# Altium footprint library EEG.PcbLib: 8 footprints
Each footprint in its own frame and in the unit in brackets; x right, y up, seen from the top. Pads: shape width x height; smd on the part's side, far side on the other; paste and mask are expansions set on the pad; w line width, h text height; cw(c..) or ccw(c..) is an arc to the next point about the centre after c.
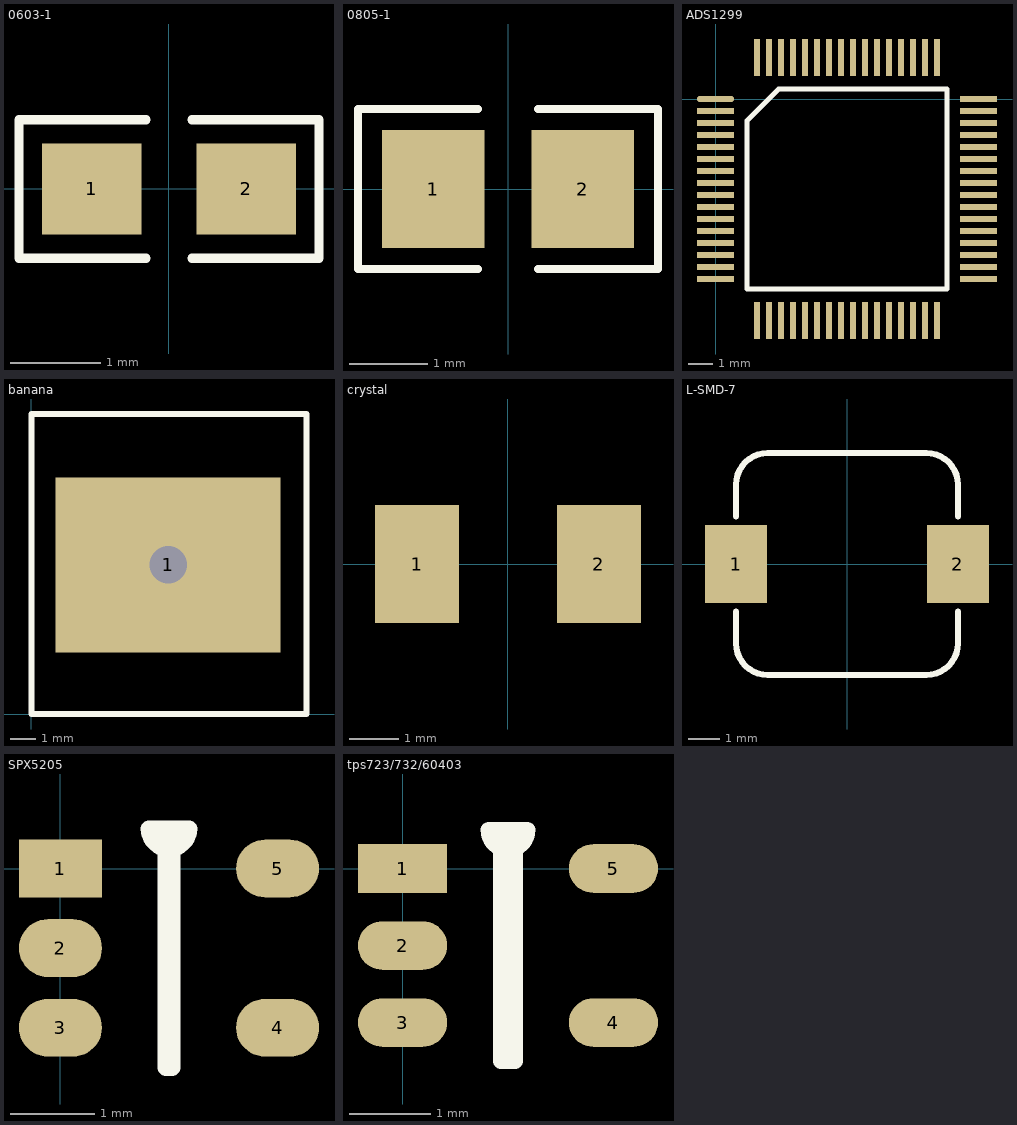
[diagram p0: the footprints below, top view; thin cyan lines are the x and y axes]

## 0603-1 [mm]
pads (2):
  rect 1.1x1 smd: 1(-0.85,0) 2(0.85,0)
Top Overlay:
  lines w0.1: -0.254,-0.762 -1.651,-0.762 -1.651,0.762 -0.254,0.762 ; 0.254,-0.762 1.651,-0.762 1.651,0.762 0.254,0.762
3D body: height 1, standoff 0, extent -1.143,-0.381 1.143,0.381

## 0805-1 [mm] "贴片带丝印"
height 1.1
pads (2):
  rect 1.3x1.5 smd: 1(-0.95,0) 2(0.95,0)
Top Overlay:
  lines w0.1: -0.381,-1.016 -1.905,-1.016 -1.905,1.016 -0.381,1.016 ; 0.381,-1.016 1.905,-1.016 1.905,1.016 0.381,1.016
3D body: height 1, standoff 0, extent -1.143,-0.508 -1.016,0.508
3D body: height 1, standoff 0, extent 1.016,-0.508 1.143,0.508
3D body: height 0.99, standoff 0, extent -1.016,-0.508 1.016,0.508

## ADS1299 [mm]
pads (64):
  oval 1.55x0.25 smd: 1(0,0)
  rect 1.55x0.25 smd: 2(0,-0.5) 3(0,-1) 4(0,-1.5) 5(0,-2) 6(0,-2.5) 7(0,-3) 8(0,-3.5) 9(0,-4) 10(0,-4.5) 11(0,-5) 12(0,-5.5) 13(0,-6) 14(0,-6.5) 15(0,-7) 16(0,-7.5) 33(10.95,-7.5) 34(10.95,-7) 35(10.95,-6.5) 36(10.95,-6) 37(10.95,-5.5) 38(10.95,-5) 39(10.95,-4.5) 40(10.95,-4) 41(10.95,-3.5) 42(10.95,-3) 43(10.95,-2.5) 44(10.95,-2) 45(10.95,-1.5) 46(10.95,-1) 47(10.95,-0.5) 48(10.95,0)
  rect 0.25x1.55 smd: 17(1.725,-9.225) 18(2.225,-9.225) 19(2.725,-9.225) 20(3.225,-9.225) 21(3.725,-9.225) 22(4.225,-9.225) 23(4.725,-9.225) 24(5.225,-9.225) 25(5.725,-9.225) 26(6.225,-9.225) 27(6.725,-9.225) 28(7.225,-9.225) 29(7.725,-9.225) 30(8.225,-9.225) 31(8.725,-9.225) 32(9.225,-9.225) 49(9.225,1.725) 50(8.725,1.725) 51(8.225,1.725) 52(7.725,1.725) 53(7.225,1.725) 54(6.725,1.725) 55(6.225,1.725) 56(5.725,1.725) 57(5.225,1.725) 58(4.725,1.725) 59(4.225,1.725) 60(3.725,1.725) 61(3.225,1.725) 62(2.725,1.725) 63(2.225,1.725) 64(1.725,1.725)
Top Overlay:
  lines w0.2: 1.31,-7.915 1.31,-0.895 2.62,0.415 9.64,0.415 9.64,-7.915 1.31,-7.915

## banana [mm]
pads (2):
  rect 9x7 smd: 1(5.461,5.969)
  rect 7.5x1.5 hole 1.5 square: ""(5.461,5.969)
Top Overlay:
  lines w0.254: 0,0 11,0 11,12 0,12 0,0

## crystal [mm]
pads (2):
  rect 1.7x2.4 smd: 1(-1.85,0) 2(1.85,0)

## L-SMD-7 [mm] "贴片电感7*7"
pads (2):
  rect 2x2.5 smd: 1(-3.556,0) 2(3.556,0)
Top Overlay:
  lines w0.2: -3.556,-1.524 -3.556,-2.54 ccw(c-2.54,-2.54) -2.54,-3.556 2.54,-3.556 ccw(c2.54,-2.54) 3.556,-2.54 3.556,-1.524 ; -3.556,1.524 -3.556,2.54 cw(c-2.54,2.54) -2.54,3.556 2.54,3.556 cw(c2.54,2.54) 3.556,2.54 3.556,1.524
3D body: height 4, standoff 0, extent -3.556,-3.556 3.556,3.556

## SPX5205 [mm]
pads (5):
  rect 0.99x0.69 smd: 1(0,0)
  oval 0.99x0.69 smd: 2(0,-0.95) 3(0,-1.9) 4(2.59,-1.9) 5(2.59,0)
Top Overlay:
  lines w0.2: 1.057,0.475 ccw(c1.295,0.475) 1.532,0.475 1.26,0.475 1.26,-2.375 1.33,-2.375 1.33,0.475 1.057,0.475

## tps723/732/60403 [mm]
pads (5):
  rect 1.1x0.6 smd: 1(0,0)
  oval 1.1x0.6 smd: 2(0,-0.95) 3(0,-1.9) 4(2.6,-1.9) 5(2.6,0)
Top Overlay:
  lines w0.2: 1.062,0.475 ccw(c1.3,0.475) 1.538,0.475 1.215,0.475 1.215,-2.375 1.385,-2.375 1.385,0.475 1.062,0.475